# Altium footprint library LC-TSSOP-28.PcbLib: 2 footprints
Each footprint in its own frame and in the unit in brackets; x right, y up, seen from the top. Pads: shape width x height; smd on the part's side, far side on the other; paste and mask are expansions set on the pad; w line width, h text height; cw(c..) or ccw(c..) is an arc to the next point about the centre after c.
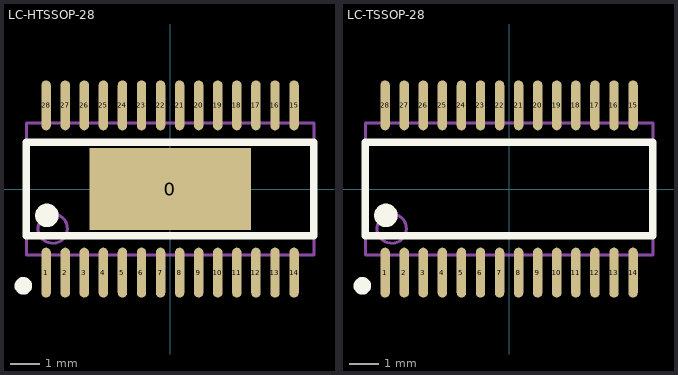
[diagram p0: the footprints below, top view; thin cyan lines are the x and y axes]

## LC-HTSSOP-28 [mm]
pads (29):
  rect 5.5x2.8 smd: 0(0,0)
  oval 0.32x1.7 smd: 1(-4.225,-2.85) 2(-3.575,-2.85) 3(-2.925,-2.85) 4(-2.275,-2.85) 5(-1.625,-2.85) 6(-0.975,-2.85) 7(-0.325,-2.85) 8(0.325,-2.85) 9(0.975,-2.85) 10(1.625,-2.85) 11(2.275,-2.85) 12(2.925,-2.85) 13(3.575,-2.85) 14(4.225,-2.85) 15(4.225,2.85) 16(3.575,2.85) 17(2.925,2.85) 18(2.275,2.85) 19(1.625,2.85) 20(0.975,2.85) 21(0.325,2.85) 22(-0.325,2.85) 23(-0.975,2.85) 24(-1.625,2.85) 25(-2.275,2.85) 26(-2.925,2.85) 27(-3.575,2.85) 28(-4.225,2.85)
Top Overlay:
  circle w0.3: c-5,-3.3 r0.15
  circle w0.4: c-4.2,-0.9 r0.2
  lines w0.254: -4.9,-1.6 -4.9,1.6 4.9,1.6 4.9,-1.6 -4.9,-1.6
Mechanical 13:
  circle w0.1: c-4,-1.35 r0.5
  lines w0.1: -4.9,-2.25 -4.9,2.25 4.9,2.25 4.9,-2.25 -4.9,-2.25

## LC-TSSOP-28 [mm]
pads (28):
  oval 0.32x1.7 smd: 1(-4.225,-2.85) 2(-3.575,-2.85) 3(-2.925,-2.85) 4(-2.275,-2.85) 5(-1.625,-2.85) 6(-0.975,-2.85) 7(-0.325,-2.85) 8(0.325,-2.85) 9(0.975,-2.85) 10(1.625,-2.85) 11(2.275,-2.85) 12(2.925,-2.85) 13(3.575,-2.85) 14(4.225,-2.85) 15(4.225,2.85) 16(3.575,2.85) 17(2.925,2.85) 18(2.275,2.85) 19(1.625,2.85) 20(0.975,2.85) 21(0.325,2.85) 22(-0.325,2.85) 23(-0.975,2.85) 24(-1.625,2.85) 25(-2.275,2.85) 26(-2.925,2.85) 27(-3.575,2.85) 28(-4.225,2.85)
Top Overlay:
  circle w0.3: c-5,-3.3 r0.15
  circle w0.4: c-4.2,-0.9 r0.2
  lines w0.254: -4.9,-1.6 -4.9,1.6 4.9,1.6 4.9,-1.6 -4.9,-1.6
Mechanical 13:
  circle w0.1: c-4,-1.35 r0.5
  lines w0.1: -4.9,-2.25 -4.9,2.25 4.9,2.25 4.9,-2.25 -4.9,-2.25